# Altium schematic symbol library RES TAP2.SchLib: 1 symbol
Pins are listed as number, name and electrical type; pins without a type are passive.

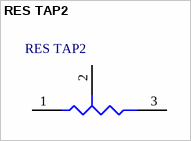
[diagram p0: symbol RES TAP2]

## RES TAP2
designator RES TAP2  (value not drawn)
footprint RES TAP2
pins: 1 A, 2 TAP, 3 B